# Altium schematic symbol library STM32WB55Cx.SchLib: 1 symbol
Pins are listed as number, name and electrical type; pins without a type are passive.

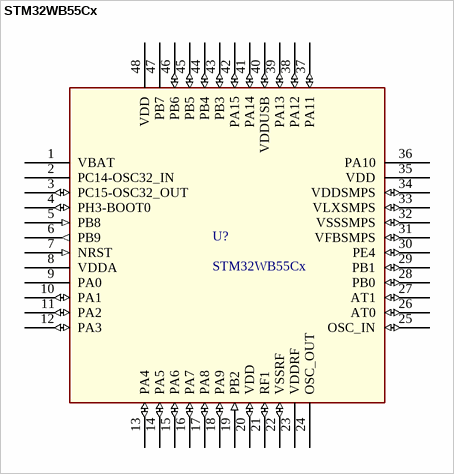
[diagram p0: symbol STM32WB55Cx]

## STM32WB55Cx
designator U?
Multiprotocol wireless 32-bit MCU Arm®-based Cortex®-M4 / with FPU, Bluetooth® 5 and 802.15.4 radio solution
footprint UFQFPN48 (QFN, 48-Leads, Body 7,00x7,00mm, Pitch 0,50mm, Thermal Pad 5,60x5,60mm, IPC Medium Density)
pins: 1 VBAT (power), 2 PC14-OSC32_IN, 3 PC15-OSC32_OUT (io), 4 PH3-BOOT0 (io), 5 PB8 (in), 6 PB9 (out), 7 NRST (in), 8 VDDA (power), 9 PA0 (power), 10 PA1 (io), 11 PA2 (io), 12 PA3 (io), 13 PA4 (io), 14 PA5 (io), 15 PA6 (io), 16 PA7 (io), 17 PA8 (io), 18 PA9 (io), 19 PB2 (in), 20 VDD (io), 21 RF1 (io), 22 VSSRF (io), 23 VDDRF (power), 24 OSC_OUT (power), 25 OSC_IN (io), 26 AT0 (io), 27 AT1 (io), 28 PB0 (io), 29 PB1 (io), 30 PE4 (io), 31 VFBSMPS (io), 32 VSSSMPS (io), 33 VLXSMPS (io), 34 VDDSMPS (io), 35 VDD (power), 36 PA10 (power), 37 PA11 (io), 38 PA12 (io), 39 PA13 (io), 40 VDDUSB (io), 41 PA14 (io), 42 PA15 (io), 43 PB3 (io), 44 PB4 (io), 45 PB5 (io), 46 PB6 (io), 47 PB7 (power), 48 VDD (power)